# Altium footprint library Nixie Tubes.PcbLib: 9 footprints
Each footprint in its own frame and in the unit in brackets; x right, y up, seen from the top. Pads: shape width x height; smd on the part's side, far side on the other; paste and mask are expansions set on the pad; w line width, h text height; cw(c..) or ccw(c..) is an arc to the next point about the centre after c.
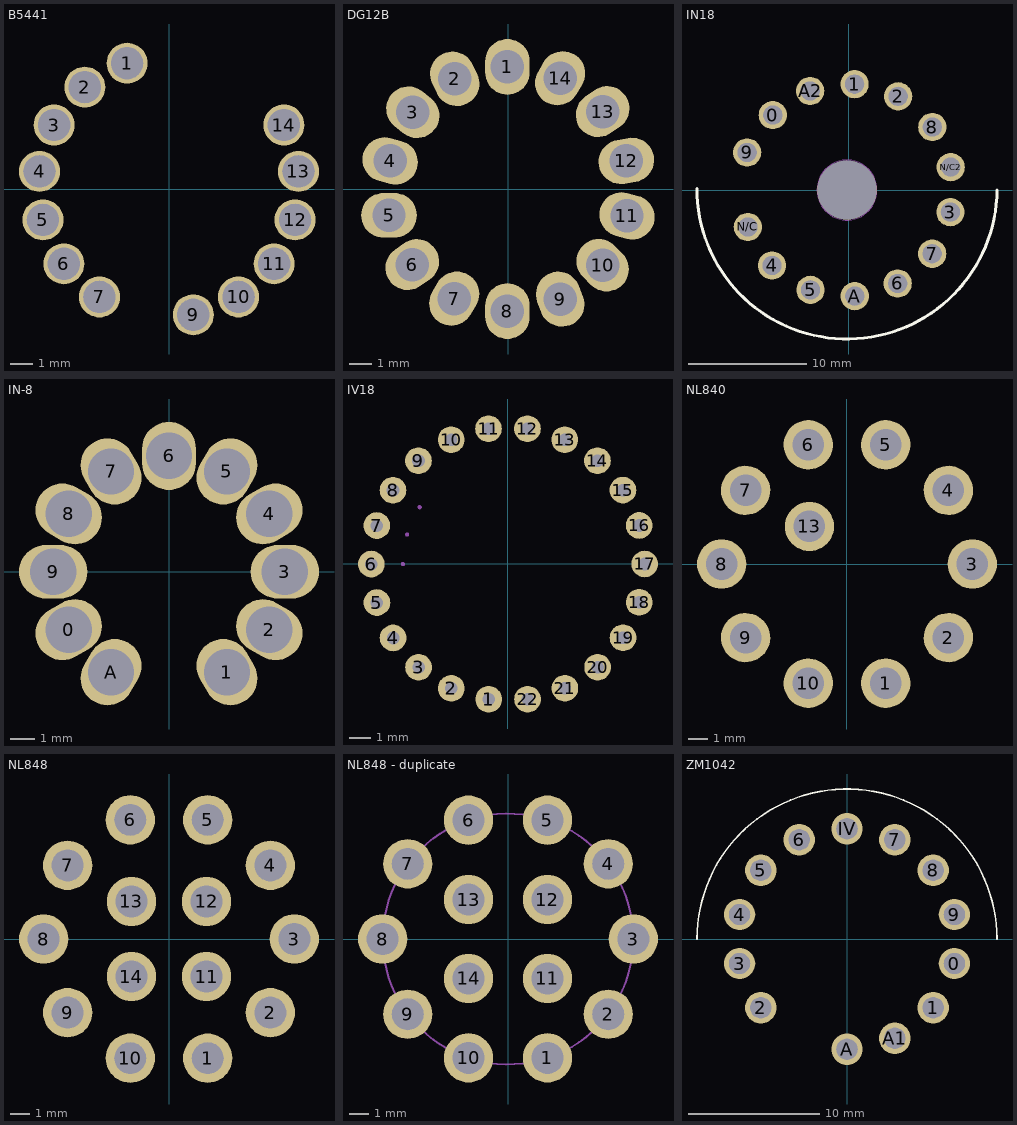
[diagram p0: the footprints below, top view; thin cyan lines are the x and y axes]

## B5441 [mil]
pads (13):
  round 70.8 hole 55.1 slot 55.3 at 0 deg: 1(-72.3,217) 2(-145.3,175.7) 3(-198.2,110.4) 4(-223.4,30.4) 5(-217.5,-53.2) 6(-181.4,-129) 7(-120,-186.2) 9(41.9,-217) 10(120,-186.2) 11(181.4,-129) 12(217.5,-53.2) 13(223.4,30.4) 14(198.2,110.4)

## DG12B [mm]
pads (14):
  oval 2x2.5 hole 1.5: 1(-0.025,5.474) 8(-0.025,-5.474)
  oval 2x2.5 hole 1.5 rot 25: 2(-2.388,4.94)
  oval 2x2.5 hole 1.5 rot 50: 3(-4.267,3.442)
  oval 2x2.5 hole 1.5 rot 75: 4(-5.283,1.257) 11(5.334,-1.206)
  oval 2.5x2 hole 1.5: 5(-5.334,-1.181)
  oval 2x2.5 hole 1.5 rot 125: 6(-4.293,-3.391) 13(4.242,3.467)
  oval 2x2.5 hole 1.5 rot 150: 7(-2.413,-4.915) 14(2.337,4.966)
  oval 2x2.5 hole 1.5 rot 20: 9(2.337,-4.94)
  oval 2x2.5 hole 1.5 rot 45: 10(4.242,-3.416)
  oval 2x2.5 hole 1.5 rot 100: 12(5.309,1.257)

## IN18 [mil]
pads (15):
  round 94.4 hole 62.9 slot 63.1 at 0 deg: 0(-253.7,250.25) 1(18.9,353.25) 2(164,312.55) 3(338.4,-73.25) 4(-256.3,-251.15) 5(-128,-332.55) 6(162.5,-311.15) 7(277.6,-211.95) 8(278.1,210.35) 9(-339.3,125.55) A(19.5,-353.25) A2(-129.3,330.45) N/C(-336.8,-122.85) N/C2(339.3,76.75)
  round 196.8 hole 196.8 unplated: ""(-6.4,0.05)
Top Overlay:
  lines w10: -506.4,6.25 ccw(c-6.4,3.77) 493.6,0.05
Top Solder:
  lines w1: -106.4,0.05 ccw(c-6.4,0.17) -106.4,0.29
  lines w100: -56.4,0.05 ccw(c-6.4,0.18) -56.4,0.31
Bottom Solder:
  lines w100: -56.4,0.05 ccw(c-6.4,0.18) -56.4,0.31
Mechanical 15:
  lines w1: -106.4,0.05 ccw(c-6.4,0.17) -106.4,0.29

## IN-8 [mm]
pads (11):
  oval 2.2x2.8 hole 1.9 rot 120: 0(-4.113,-2.375) 4(4.113,2.375)
  oval 2.2x2.8 hole 1.9 rot 30: 1(2.375,-4.113) 7(-2.375,4.113)
  oval 2.2x2.8 hole 1.9 rot 60: 2(4.113,-2.375) 8(-4.113,2.375)
  oval 2.8x2.2 hole 1.9: 3(4.75,0) 9(-4.75,0)
  oval 2.2x2.8 hole 1.9 rot 150: 5(2.375,4.113) A(-2.375,-4.113)
  oval 2.2x2.8 hole 1.9: 6(0,4.75)

## IV18 [mm]
pads (22):
  round 1.27 / inner round 1.524 / far side round 1.27 hole 0.6: 1(-0.919,-6.434) 2(-2.695,-5.915) 3(-4.253,-4.916) 4(-5.465,-3.518) 5(-6.235,-1.835) 6(-6.5,-0.004) 7(-6.238,1.828) 8(-5.47,3.512) 9(-4.259,4.911) 10(-2.703,5.912) 11(-0.927,6.434) 12(0.923,6.434) 13(2.699,5.914) 14(4.256,4.913) 15(5.468,3.515) 16(6.237,1.832) 17(6.5,0) 18(6.239,-1.823) 19(5.472,-3.507) 20(4.262,-4.907) 21(2.706,-5.909) 22(0.931,-6.433)
Mechanical 15:
  circle w0.1: c-4.2,2.7 r0.05
  circle w0.1: c-4.8,1.4 r0.05
  circle w0.1: c-5,-0.004 r0.05

## NL840 [mm]
pads (11):
  round 2.5 hole 1.6: 1(1.962,-6.039) 2(5.137,-3.732) 3(6.35,0) 4(5.137,3.732) 5(1.962,6.039) 6(-1.962,6.039) 7(-5.137,3.732) 8(-6.35,0) 9(-5.137,-3.732) 10(-1.962,-6.039) 13(-1.904,1.904)

## NL848 [mm]
pads (14):
  round 2.5 hole 1.6 slot 1.603 at 0 deg: 1(1.961,-6.038) 2(5.136,-3.731) 3(6.35,0) 4(5.136,3.731) 5(1.961,6.038) 6(-1.961,6.038) 7(-5.136,3.731) 8(-6.35,0) 9(-5.136,-3.731) 10(-1.961,-6.038) 11(1.902,-1.902) 12(1.902,1.902) 13(-1.902,1.902) 14(-1.902,-1.902)

## NL848 - duplicate [mm]
pads (14):
  round 2.5 hole 1.6 slot 1.603 at 0 deg: 1(2,-6.023) 2(5.08,-3.81) 3(6.35,0) 4(5.08,3.81) 5(2,6.025) 6(-2,6.025) 7(-5.08,3.81) 8(-6.35,0) 9(-5.08,-3.81) 10(-2,-6.023) 11(2,-2) 12(2,2) 13(-2,2) 14(-2,-2)
Mechanical 1:
  circle w0.1: c0,0 r6.35

## ZM1042 [mil]
pads (13):
  round 94.4 hole 62.9 slot 63.1 at 0 deg: 0(322.4,-73.5) 1(258.5,-206.1) 2(-258.5,-206.1) 3(-322.4,-73.5) 4(-322.4,73.5) 5(-258.5,206.1) 6(-143.5,297.9) 7(143.5,297.9) 8(258.5,206.1) 9(322.4,73.5) A(0,-330.7) A1(143.5,-297.9) IV(0,330.7)
Top Overlay:
  lines w5: -450,0 cw(c0,0) 450,0